# EAGLE library part MCP23S018 (library X893)
http://ww1.microchip.com/downloads/en/DeviceDoc/22103a.pdf
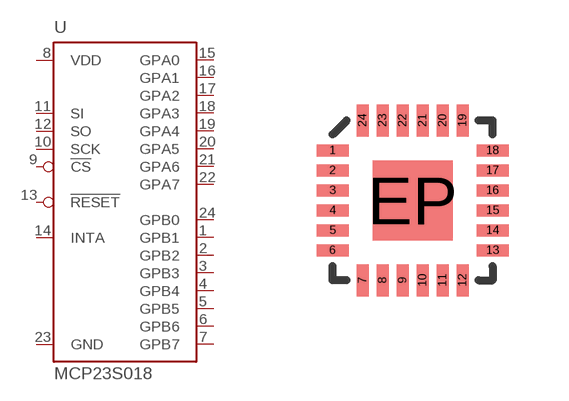
[diagram p53: symbol with the pads of QFN24-4X4; footprint QFN24-4X4]

Designator prefix -

## MCP23S018  [QFN24-4X4]
1  GPB1  pas
2  GPB2  pas
3  GPB3  pas
4  GPB4  pas
5  GPB5  pas
6  GPB6  pas
7  GPB7  pas
8  VDD  pwr
9  !CS  in
10  SCK  in
11  SI  in
12  SO  hiz
13  !RESET  in
14  INTA  oc
15  GPA0  pas
16  GPA1  pas
17  GPA2  pas
18  GPA3  pas
19  GPA4  pas
20  GPA5  pas
21  GPA6  pas
22  GPA7  pas
23  GND  pwr
24  GPB0  pas

## Footprint QFN24-4X4 (pad centres in mm)
smd 0.8 x 0.3: 1 -2,1.25; 2 -2,0.75; 3 -2,0.25; 4 -2,-0.25; 5 -2,-0.75; 6 -2,-1.25; 13 2,-1.25; 14 2,-0.75; 15 2,-0.25; 16 2,0.25; 17 2,0.75; 18 2,1.25
smd 0.3 x 0.8: 7 -1.25,-2; 8 -0.75,-2; 9 -0.25,-2; 10 0.25,-2; 11 0.75,-2; 12 1.25,-2; 19 1.25,2; 20 0.75,2; 21 0.25,2; 22 -0.25,2; 23 -0.75,2; 24 -1.25,2
smd 2 x 2: EP 0,0